# Altium schematic symbol library XT30PW-M.SchLib: 1 symbol
Pins are listed as number, name and electrical type; pins without a type are passive.

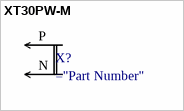
[diagram p0: symbol XT30PW-M]

## XT30PW-M
designator X?
30 А (15 продолжительно), 2 контакта разъем
pins: N, P